# Altium footprint library Coiler.PcbLib: 1 footprints
Each footprint in its own frame and in the unit in brackets; x right, y up, seen from the top. Pads: shape width x height; smd on the part's side, far side on the other; paste and mask are expansions set on the pad; w line width, h text height; cw(c..) or ccw(c..) is an arc to the next point about the centre after c.
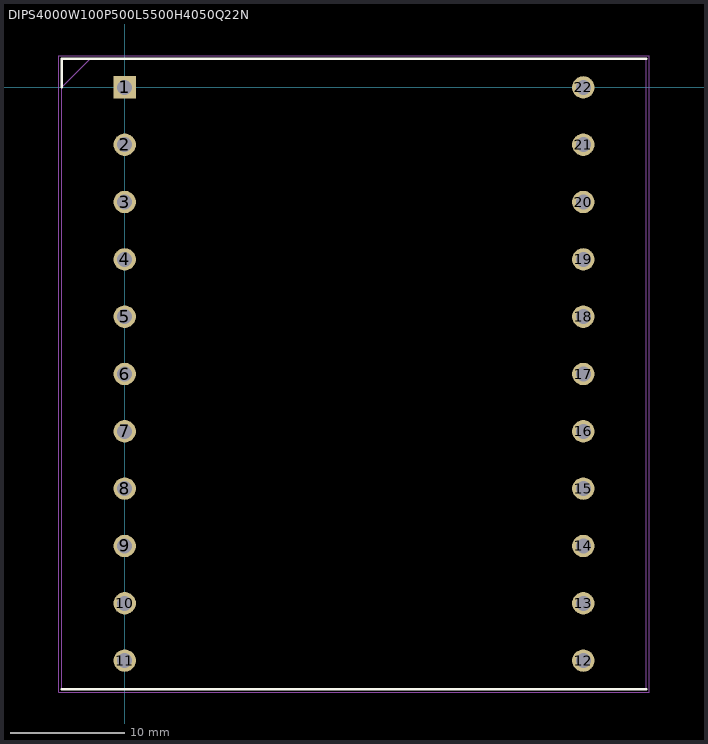
[diagram p0: the footprint, top view; thin cyan lines are the x and y axes]

## DIPS4000W100P500L5500H4050Q22N [mm]
pads (22):
  rect 1.95x1.95 / inner round 1.95 / far side rect 1.95x1.95 hole 1.3: 1(0,0)
  round 1.95 hole 1.3: 2(0,-5) 3(0,-10) 4(0,-15) 5(0,-20) 6(0,-25) 7(0,-30) 8(0,-35) 9(0,-40) 10(0,-45) 11(0,-50) 12(40,-50) 13(40,-45) 14(40,-40) 15(40,-35) 16(40,-30) 17(40,-25) 18(40,-20) 19(40,-15) 20(40,-10) 21(40,-5) 22(40,0)
Top Overlay:
  lines w0.2: -5.5,-52.5 45.5,-52.5 ; -5.5,0 -5.5,2.5 45.5,2.5
Mechanical 15:
  lines w0.1: -5.5,0 -3,2.5 ; -5.5,-52.5 45.5,-52.5 45.5,2.5 -5.5,2.5 -5.5,-52.5
Mechanical 20:
  lines w0.05: -5.75,-52.75 45.75,-52.75 45.75,2.75 -5.75,2.75 -5.75,-52.75